# EAGLE library part ESP-12 (library ESP8266)
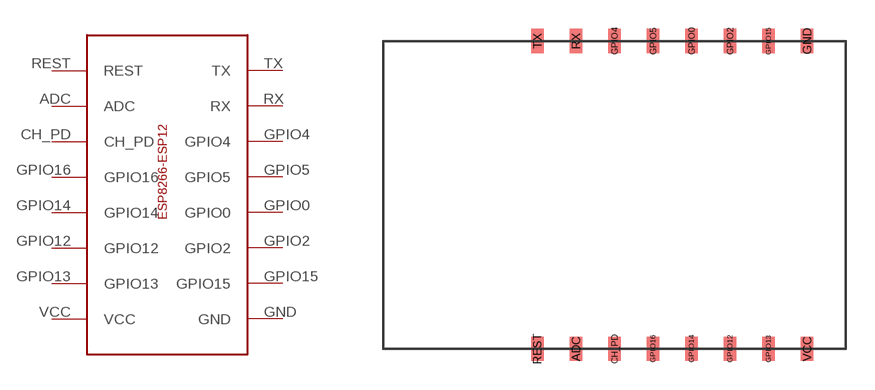
[diagram p0: symbol with the pads of ESP-12; footprint ESP-12]

Designator prefix -

## ESP-12  [ESP-12]
ADC  ADC
CH_PD  CH_PD
GND  GND
GPIO0  GPIO0
GPIO2  GPIO2
GPIO4  GPIO4
GPIO5  GPIO5
GPIO12  GPIO12
GPIO13  GPIO13
GPIO14  GPIO14
GPIO15  GPIO15
GPIO16  GPIO16
REST  REST
RX  RX
TX  TX
VCC  VCC

## Footprint ESP-12 (pad centres in mm)
smd 0.635 x 1.27: ADC 10,-2; CH_PD 12,-2; GND 22,14; GPIO0 16,14; GPIO2 18,14; GPIO4 12,14; GPIO5 14,14; GPIO12 18,-2; GPIO13 20,-2; GPIO14 16,-2; GPIO15 20,14; GPIO16 14,-2; REST 8,-2; RX 10,14; TX 8,14; VCC 22,-2